# Altium footprint library ATK-2014-09-12.PcbLib: 439 footprints (part 21 of 28)
Each footprint in its own frame and in the unit in brackets; x right, y up, seen from the top. Pads: shape width x height; smd on the part's side, far side on the other; paste and mask are expansions set on the pad; w line width, h text height; cw(c..) or ccw(c..) is an arc to the next point about the centre after c.
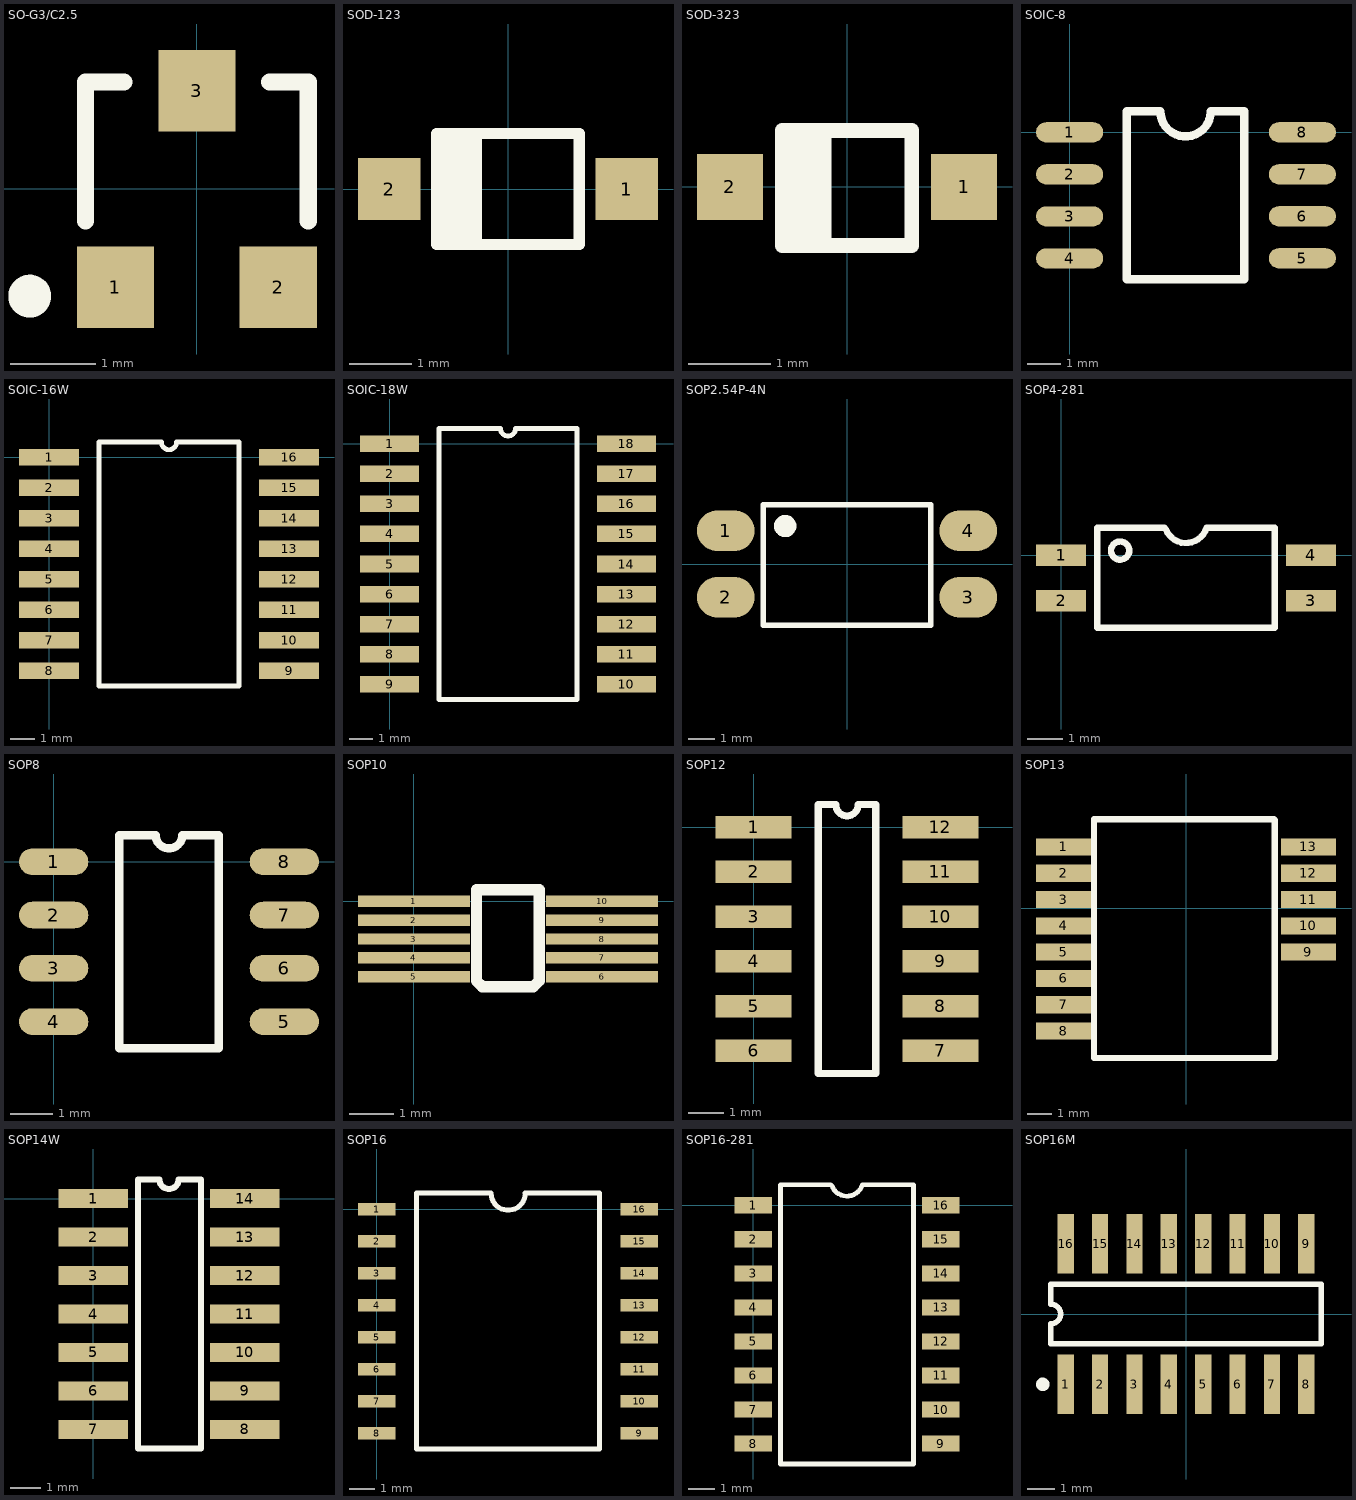
[diagram p20: the footprints below, top view; thin cyan lines are the x and y axes]

## SO-G3/C2.5 [mm] "SOT-23; 3 Leads; Body 3.0 x 2.6 mm, inc. leads (LxW max)"
height 1.1
pads (3):
  rect 0.9x0.95 smd: 1(-0.95,-1.148) 2(0.95,-1.148) 3(0,1.148)
Top Overlay:
  circle w0.25: c-1.95,-1.25 r0.125
  lines w0.2: -1.3,-0.375 -1.3,1.25 -0.85,1.25 ; 0.85,1.25 1.3,1.25 1.3,-0.375

## SOD-123 [mm]
height 1
pads (2):
  rect 1x1 smd: 1(1.905,0) 2(-1.905,0)
Top Overlay:
  rectangle: -1.143,-0.889 -0.508,0.889
  lines w0.178: -0.508,-0.889 -0.508,0.889 ; -1.143,-0.889 1.143,-0.889 1.143,-0.445 1.143,0.445 1.143,0.889 -1.143,0.889 -1.143,-0.889

## SOD-323 [mm]
pads (2):
  rect 0.8x0.8 smd: 1(1.422,0) 2(-1.422,0)
Top Overlay:
  rectangle: -0.787,-0.737 -0.33,0.635
  lines w0.178: -0.279,-0.711 -0.279,0.686 ; -0.787,-0.711 0.787,-0.711 0.787,0.686 -0.787,0.686 -0.787,-0.711

## SOIC-8 [mil] "SOIC"
height 59.06
pads (8):
  oval 80x24 smd: 1(0,0) 2(0,-50.06) 3(0,-100.06) 4(0,-150.06) 5(277,-150) 6(277,-100) 7(277,-50) 8(277,0)
Top Overlay:
  lines w10: 78,24.94 78.06,25 108,25 ccw(c138,25) 168,25 207.94,25 208,24.94 208,-175.06 68,-175.06 68,24.94 98,24.94

## SOIC-16W [mm] "SIZE:10mm*10.8mm;PIN:1.27mm;"
height 2.4
pads (16):
  rect 2.5x0.7 smd: 1(0,0) 2(0,-1.27) 3(0,-2.54) 4(0,-3.81) 5(0,-5.08) 6(0,-6.35) 7(0,-7.62) 8(0,-8.89) 9(10,-8.89) 10(10,-7.62) 11(10,-6.35) 12(10,-5.08) 13(10,-3.81) 14(10,-2.54) 15(10,-1.27) 16(10,0)
Top Overlay:
  lines w0.2: 2.085,-9.525 7.915,-9.525 7.915,0.635 5.318,0.635 cw(c5,0.635) 4.683,0.635 2.085,0.635 2.085,-9.525

## SOIC-18W [mm] "SIZE:10mm*10.8mm;PIN:1.27mm;"
height 2.4
pads (18):
  rect 2.5x0.7 smd: 1(0,0) 2(0,-1.27) 3(0,-2.54) 4(0,-3.81) 5(0,-5.08) 6(0,-6.35) 7(0,-7.62) 8(0,-8.89) 9(0,-10.16) 10(10,-10.16) 11(10,-8.89) 12(10,-7.62) 13(10,-6.35) 14(10,-5.08) 15(10,-3.81) 16(10,-2.54) 17(10,-1.27) 18(10,0)
Top Overlay:
  lines w0.2: 2.085,-10.795 2.085,0.635 4.683,0.635 ccw(c5,0.635) 5.318,0.635 7.915,0.635 7.915,-10.795 2.085,-10.795

## SOP2.54P-4N [mm] "SOP, 4-Leads, Body 7.0x4.6mm (max), Pitch 2.54mm, IPC Medium Density"
height 3.9
pads (4):
  oval 2.2x1.55 smd: 1(-4.625,1.27) 2(-4.625,-1.27) 3(4.625,-1.27) 4(4.625,1.27)
Top Overlay:
  circle w0.45: c-2.359,1.448 r0.2
  lines w0.2: -3.2,-2.337 3.2,-2.337 3.2,2.261 -3.2,2.261 -3.2,-2.337

## SOP4-281 [mm] "TLP281-1;1.27mm;4.4*2.6mm"
height 2
pads (4):
  rect 1.4x0.6 smd: 1(0,0) 2(0,-1.27) 3(6.985,-1.27) 4(6.985,0)
Top Overlay:
  circle w0.178: c1.651,0.127 r0.254
  lines w0.178: 1.016,-2.032 1.016,0.762 2.89,0.762 2.93,0.722 ccw(c3.49,0.938) 4.064,0.762 5.969,0.762 5.969,-2.032 1.016,-2.032

## SOP8 [mil] "SOP"
height 39.37
pads (8):
  oval 65x25 smd: 1(0,0) 2(0,-50) 3(0,-100) 4(0,-150) 5(216.41,-150) 6(216.41,-100) 7(216.41,-50) 8(216.41,0)
Top Overlay:
  lines w7.87: 61.37,-175 155.04,-175 155.04,25 120.7,25 cw(c108.2,25) 95.7,25 61.37,25 61.37,-175

## SOP10 [mm]
pads (10):
  rect 2.5x0.254 smd: 1(0,0) 2(0,-0.421) 3(0,-0.842) 4(0,-1.263) 5(0,-1.684) 6(4.2,-1.684) 7(4.2,-1.263) 8(4.2,-0.842) 9(4.2,-0.421) 10(4.2,0)
Top Overlay:
  lines w0.254: 1.397,-1.778 1.397,0.254 2.794,0.254 2.794,-1.778 2.667,-1.905 1.524,-1.905 1.397,-1.778

## SOP12 [mil]
pads (12):
  rect 85x25 smd: 1(0,0) 2(0,-50) 3(0,-100) 4(0,-150) 5(0,-200) 6(0,-250) 7(208.66,-250) 8(208.66,-200) 9(208.66,-150) 10(208.66,-100) 11(208.66,-50) 12(208.66,0)
Top Overlay:
  lines w7.87: 72.24,-275 72.24,25 91.83,25 ccw(c104.33,25) 116.83,25 136.42,25 136.42,-275 72.24,-275

## SOP13 [mil] "TEA5767"
height 39.37
pads (13):
  rect 90x28 smd: 1(-200,100) 2(-200,57) 3(-200,14) 4(-200,-29) 5(-200,-72) 6(-200,-115) 7(-200,-158) 8(-200,-201) 9(200,-72) 10(200,-29) 11(200,14) 12(200,57) 13(200,100)
Top Overlay:
  lines w10: 144,145 -150,145 -150,-245 145,-245 145,144

## SOP14W [mil] "CD4066"
height 39.37
pads (14):
  rect 90x25 smd: 1(0,0) 2(0,-50) 3(0,-100) 4(0,-150) 5(0,-200) 6(0,-250) 7(0,-300) 8(196.85,-300) 9(196.85,-250) 10(196.85,-200) 11(196.85,-150) 12(196.85,-100) 13(196.85,-50) 14(196.85,0)
Top Overlay:
  lines w7.87: 57.87,-325 57.87,25 85.93,25 ccw(c98.43,25) 110.93,25 140,25 140,-325 57.87,-325

## SOP16 [mm] "1.28mm"
height 2
pads (16):
  rect 1.5x0.5 smd: 1(0,0) 2(0,-1.28) 3(0,-2.56) 4(0,-3.84) 5(0,-5.12) 6(0,-6.4) 7(0,-7.68) 8(0,-8.96) 9(10.5,-8.96) 10(10.5,-7.68) 11(10.5,-6.4) 12(10.5,-5.12) 13(10.5,-3.84) 14(10.5,-2.56) 15(10.5,-1.28) 16(10.5,0)
Top Overlay:
  lines w0.2: 1.585,-9.6 1.585,0.64 4.572,0.64 ccw(c5.256,0.64) 5.94,0.64 8.915,0.64 8.915,-9.6 1.585,-9.6

## SOP16-281 [mm] "TLP281-4;1.27mm;4.4*10.3mm"
height 2
pads (16):
  rect 1.4x0.6 smd: 1(0,0) 2(0,-1.27) 3(0,-2.54) 4(0,-3.81) 5(0,-5.08) 6(0,-6.35) 7(0,-7.62) 8(0,-8.89) 9(6.985,-8.89) 10(6.985,-7.62) 11(6.985,-6.35) 12(6.985,-5.08) 13(6.985,-3.81) 14(6.985,-2.54) 15(6.985,-1.27) 16(6.985,0)
Top Overlay:
  lines w0.178: 1.016,-9.652 5.969,-9.652 5.969,0.762 4.064,0.762 cw(c3.49,0.938) 2.93,0.722 2.89,0.762 1.016,0.762 1.016,-9.652

## SOP16M [mm] "Small Outline; 16 Leads; Body Width 3.9 mm; Pitch 1.27 mm"
height 1.75
pads (16):
  rect 0.6x2.2 smd: 1(-4.445,-2.6) 2(-3.175,-2.6) 3(-1.905,-2.6) 4(-0.635,-2.6) 5(0.635,-2.6) 6(1.905,-2.6) 7(3.175,-2.6) 8(4.445,-2.6) 9(4.445,2.6) 10(3.175,2.6) 11(1.905,2.6) 12(0.635,2.6) 13(-0.635,2.6) 14(-1.905,2.6) 15(-3.175,2.6) 16(-4.445,2.6)
Top Overlay:
  circle w0.25: c-5.295,-2.6 r0.125
  lines w0.2: -5,-1.1 -5,-0.367 ccw(c-5,0) -5,0.367 -5,1.1 5,1.1 5,-1.1 -5,-1.1